# Altium schematic symbol library SD card.SchLib: 1 symbol
Pins are listed as number, name and electrical type; pins without a type are passive.

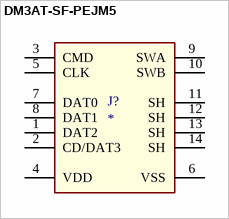
[diagram p0: symbol DM3AT-SF-PEJM5]

## DM3AT-SF-PEJM5
designator J?
Connector; Manufacturer_Name: Hirose; Manufacturer_Part_Number: DM3AT-SF-PEJM5; Datasheet Link: https://componentsearchengine.com/Datasheets/1/DM3AT-SF-PEJM5.pdf; Mouser Part Number: 798-DM3AT-SF-PEJM5; Mouser Price/Stock: https://www.mouser.com/Search/Refine.aspx?Keyword=798-DM3AT-SF-PEJM5
footprint DM3AT-SF-PEJM5_1
pins: 1 DAT2, 2 CD/DAT3, 3 CMD, 4 VDD, 5 CLK, 6 VSS, 7 DAT0, 8 DAT1, 9 SWA, 10 SWB, 11 SH, 12 SH, 13 SH, 14 SH